# EAGLE library part TFTLCD (library 00ese323)
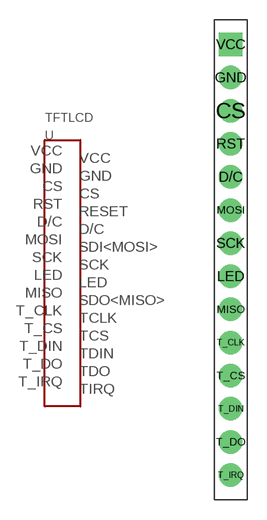
[diagram p0: symbol with the pads of TFTLCD; footprint TFTLCD]

Designator prefix -

## TFTLCDTFTLCD-DEV  [TFTLCD]
CS  CS  out
D/C  D/C  out
GND  GND  pwr
LED  LED  in
MISO  SDO<MISO>  in
MOSI  SDI<MOSI>  out
RST  RESET  in
SCK  SCK  out
T_CLK  TCLK  in
T_CS  TCS  in
T_DIN  TDIN  in
T_DO  TDO  in
T_IRQ  TIRQ  in
VCC  VCC  pwr

## Footprint TFTLCD (pad centres in mm)
drill 1.2: CS 0,7.62; D/C 0,2.54; GND 0,10.16; LED 0,-5.08; MISO 0,-7.62; MOSI 0,0; RST 0,5.08; SCK 0,-2.54; T_CLK 0,-10.16; T_CS 0,-12.7; T_DIN 0,-15.24; T_DO 0,-17.78; T_IRQ 0,-20.32
drill 1.2 square: VCC 0,12.7